# Altium footprint library BMP280_1.PcbLib: 1 footprints
Each footprint in its own frame and in the unit in brackets; x right, y up, seen from the top. Pads: shape width x height; smd on the part's side, far side on the other; paste and mask are expansions set on the pad; w line width, h text height; cw(c..) or ccw(c..) is an arc to the next point about the centre after c.
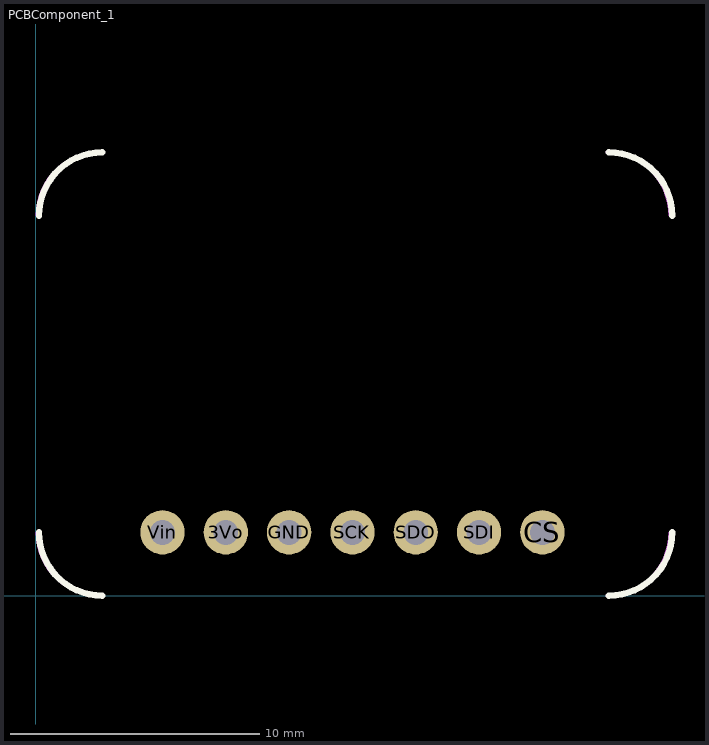
[diagram p0: the footprint, top view; thin cyan lines are the x and y axes]

## PCBComponent_1 [mil]
pads (7):
  round 70 hole 39.37: 3Vo(300,100) CS(800,100) GND(400,100) SCK(500,100) SDI(700,100) SDO(600,100) Vin(200,100)
Top Overlay:
  lines w10: 5,100 ccw(c105,100) 105,0 ; 5,600 cw(c105,600) 105,700 ; 905,0 ccw(c905,100) 1005,100 ; 905,700 cw(c905,600) 1005,600
Keep-Out Layer:
  lines w0: 0,100 ccw(c100,100) 100,0 ; 0,600 cw(c100,600) 100,700 ; 900,0 ccw(c900,100) 1000,100 ; 900,700 cw(c900,600) 1000,600
Route Tool Path:
  lines w0: 0,100 ccw(c100,100) 100,0 ; 0,600 cw(c100,600) 100,700 ; 900,0 ccw(c900,100) 1000,100 ; 900,700 cw(c900,600) 1000,600